# EAGLE library part TMP101 (library ERIC)
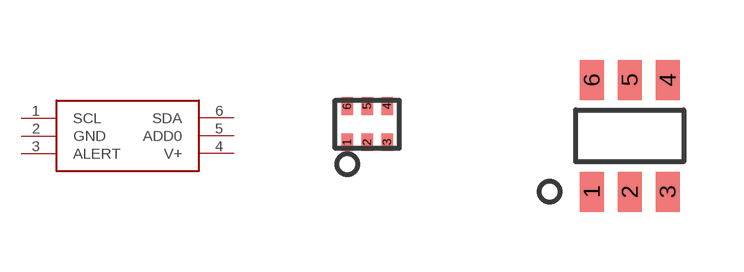
[diagram p17: symbol with the pads of SOT563; footprints SOT563, SOT-23-6]

Designator prefix -

## TMP101X  [SOT563]
1  SCL  in
2  GND  pwr
3  ALERT
4  V+  pwr
5  ADD0
6  SDA

## TMP101SOT23-6  [SOT-23-6]
Pads as for SOT563

## Footprint SOT563 (pad centres in mm)
SOT563 from the Texas Instruments TEMP101 data sheet http://www.ti.com/lit/ds/symlink/tmp102.pdf
smd 0.3 x 0.45: 1 -0.5,-0.45; 2 0,-0.45; 3 0.5,-0.45; 4 0.5,0.45; 5 0,0.45; 6 -0.5,0.45

## Footprint SOT-23-6 (pad centres in mm)
6-Lead Plastic Small Outline Transistor (OT) [SOT-23] from Microchip Page 64
smd 0.6 x 1: 1 -0.95,-1.4; 2 0,-1.4; 3 0.95,-1.4; 4 0.95,1.4; 5 0,1.4; 6 -0.95,1.4